# Altium footprint library Library.PcbLib: 21 footprints (part 1 of 2)
Each footprint in its own frame and in the unit in brackets; x right, y up, seen from the top. Pads: shape width x height; smd on the part's side, far side on the other; paste and mask are expansions set on the pad; w line width, h text height; cw(c..) or ccw(c..) is an arc to the next point about the centre after c.
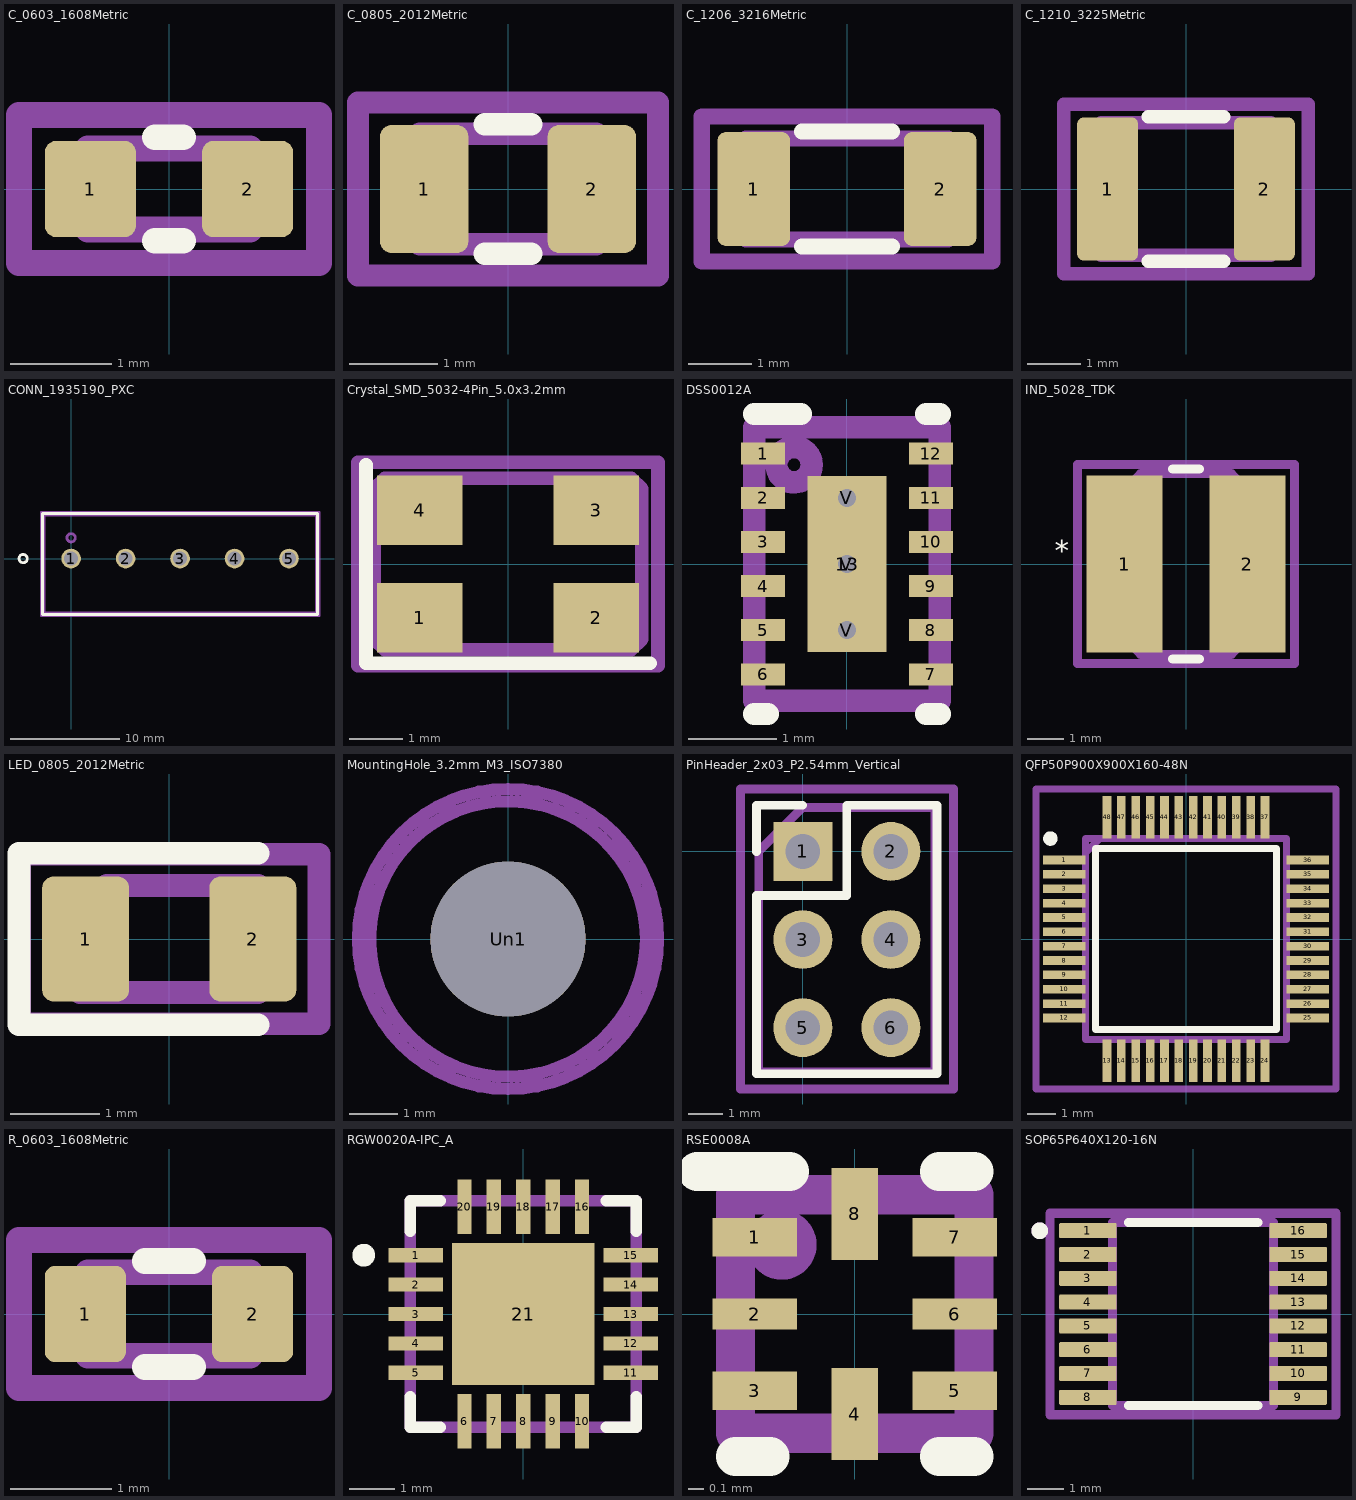
[diagram p0: the footprints below, top view; thin cyan lines are the x and y axes]

## C_0603_1608Metric [mm]
pads (2):
  rrect25% 0.9x0.95 smd: 1(-0.775,0) 2(0.775,0)
F.SilkS:
  lines w0.254: -0.141,-0.51 0.141,-0.51 ; -0.141,0.51 0.141,0.51
F.CrtYd:
  lines w0.254: -1.48,-0.73 -1.48,0.73 1.48,0.73 1.48,-0.73 -1.48,-0.73
F.Fab:
  lines w0.254: -0.8,-0.4 -0.8,0.4 0.8,0.4 0.8,-0.4 -0.8,-0.4
  text "'.Designator'" at -0.576,-0.16 h0.4

## C_0805_2012Metric [mm]
pads (2):
  rrect25% 1x1.45 smd: 1(-0.95,0) 2(0.95,0)
F.SilkS:
  lines w0.254: -0.261,-0.735 0.261,-0.735 ; -0.261,0.735 0.261,0.735
F.CrtYd:
  lines w0.254: -1.7,-0.98 -1.7,0.98 1.7,0.98 1.7,-0.98 -1.7,-0.98
F.Fab:
  lines w0.254: -1,-0.625 -1,0.625 1,0.625 1,-0.625 -1,-0.625
  text "'.Designator'" at -0.72,-0.2 h0.5

## C_1206_3216Metric [mm]
pads (2):
  rrect22% 1.15x1.8 smd: 1(-1.475,0) 2(1.475,0)
F.SilkS:
  lines w0.254: -0.711,-0.91 0.711,-0.91 ; -0.711,0.91 0.711,0.91
F.CrtYd:
  lines w0.254: -2.3,-1.15 -2.3,1.15 2.3,1.15 2.3,-1.15 -2.3,-1.15
F.Fab:
  lines w0.254: -1.6,-0.8 -1.6,0.8 1.6,0.8 1.6,-0.8 -1.6,-0.8
  text "'.Designator'" at -1.146,-0.317 h0.8

## C_1210_3225Metric [mm]
pads (2):
  rrect22% 1.15x2.7 smd: 1(-1.475,0) 2(1.475,0)
F.SilkS:
  lines w0.254: -0.711,-1.36 0.711,-1.36 ; -0.711,1.36 0.711,1.36
F.CrtYd:
  lines w0.254: -2.3,-1.6 -2.3,1.6 2.3,1.6 2.3,-1.6 -2.3,-1.6
F.Fab:
  lines w0.254: -1.6,-1.25 -1.6,1.25 1.6,1.25 1.6,-1.25 -1.6,-1.25
  text "'.Designator'" at -1.146,-0.317 h0.8

## CONN_1935190_PXC [mil]
pads (5):
  round 71 hole 51: 1(0,0) 2(196.85,0) 3(393.7,0) 4(590.55,0) 5(787.4,0)
F.SilkS:
  circle w10: c-173.43,0 r15
  lines w10: -103.43,-201.85 -103.43,162.48 890.83,162.48 890.83,-201.85 -103.43,-201.85
B.SilkS:
  circle w10: c-173.43,0 r15
F.CrtYd:
  lines w10: -108.43,-206.85 -108.43,167.48 895.83,167.48 895.83,-206.85 -108.43,-206.85
F.Fab:
  circle w10: c0,75 r15
  lines w10: -98.43,-196.85 -98.43,157.48 885.83,157.48 885.83,-196.85 -98.43,-196.85
  text "'.Designator'" at 337.07,-15.69 h39.37

## Crystal_SMD_5032-4Pin_5.0x3.2mm [mm]
pads (4):
  rect 1.6x1.3 smd: 1(-1.65,-1) 2(1.65,-1) 3(1.65,1) 4(-1.65,1)
F.SilkS:
  lines w0.254: -2.65,1.85 -2.65,-1.85 2.65,-1.85
F.CrtYd:
  lines w0.254: -2.8,-1.9 -2.8,1.9 2.8,1.9 2.8,-1.9 -2.8,-1.9
F.Fab:
  lines w0.254: -2.5,-0.6 -1.5,-1.6 ; -2.5,-1.4 -2.5,1.4 -2.3,1.6 2.3,1.6 2.5,1.4 2.5,-1.4 2.3,-1.6 -2.3,-1.6 -2.5,-1.4
  text "'.Designator'" at -1.438,-0.398 h1

## DSS0012A [mm]
pads (16):
  rect 0.5x0.25 smd: 1(-0.95,1.25) 2(-0.95,0.75) 3(-0.95,0.25) 4(-0.95,-0.25) 5(-0.95,-0.75) 6(-0.95,-1.25) 7(0.95,-1.25) 8(0.95,-0.75) 9(0.95,-0.25) 10(0.95,0.25) 11(0.95,0.75) 12(0.95,1.25)
  rect 0.9x2 smd: 13(0,0)
  round 0.5 hole 0.203: V(0,-0.75) V(0,0) V(0,0.75)
F.SilkS:
  lines w0.254: -1.05,-1.7 -0.9,-1.7 ; -1.05,1.7 -0.525,1.7 ; 0.9,-1.7 1.05,-1.7 ; 0.9,1.7 1.05,1.7
F.Paste:
  region: 0.41,0.999 0.419,0.996 0.428,0.992 0.436,0.986 0.442,0.978 0.446,0.969 0.449,0.96 0.45,0.95 0.45,0.149 0.449,0.14 0.446,0.131 0.442,0.122 0.436,0.114 0.428,0.108 0.419,0.104 0.41,0.101 0.4,0.1 -0.4,0.1 -0.41,0.101 -0.419,0.104 -0.428,0.108 -0.436,0.114 -0.442,0.122 -0.446,0.131 -0.449,0.14 -0.45,0.149 -0.45,0.95 -0.449,0.96 -0.446,0.969 -0.442,0.978 -0.436,0.986 -0.428,0.992 -0.419,0.996 -0.41,0.999 -0.4,1 0.4,1
  region: 0.41,-0.101 0.419,-0.104 0.428,-0.108 0.436,-0.114 0.442,-0.122 0.446,-0.131 0.449,-0.14 0.45,-0.149 0.45,-0.95 0.449,-0.96 0.446,-0.969 0.442,-0.978 0.436,-0.986 0.428,-0.992 0.419,-0.996 0.41,-0.999 0.4,-1 -0.4,-1 -0.41,-0.999 -0.419,-0.996 -0.428,-0.992 -0.436,-0.986 -0.442,-0.978 -0.446,-0.969 -0.449,-0.96 -0.45,-0.95 -0.45,-0.149 -0.449,-0.14 -0.446,-0.131 -0.442,-0.122 -0.436,-0.114 -0.428,-0.108 -0.419,-0.104 -0.41,-0.101 -0.4,-0.1 0.4,-0.1
F.Fab:
  circle w0.254: c-0.6,1.125 r0.2
  lines w0.254: -1.05,-1.55 -1.05,1.55 1.05,1.55 1.05,-1.55 -1.05,-1.55
  text "'.Designator'" at -1.438,-0.398 h1

## IND_5028_TDK [mm]
pads (2):
  rect 2.1x4.9 smd: 1(-1.7,0) 2(1.7,0)
F.SilkS:
  lines w0.254: -0.368,-2.627 0.368,-2.627 ; -0.368,2.627 0.368,2.627
  text "*" at -3.638,-0.117 h1
  text "*" at -3.638,-0.117 h1
F.CrtYd:
  lines w0.254: -3.004,-2.754 -3.004,2.754 3.004,2.754 3.004,-2.754 -3.004,-2.754
F.Fab:
  lines w0.254: -2.5,-1.25 -2.5,1.25 -1.25,2.5 1.25,2.5 2.5,1.25 2.5,-1.25 1.25,-2.5 -1.25,-2.5 -2.5,-1.25
  text "*" at -2.114,-0.117 h1
  text "*" at -2.114,-0.117 h1
  text "'.Designator'" at -1.438,-0.398 h1

## LED_0805_2012Metric [mm]
pads (2):
  rrect25% 0.975x1.4 smd: 1(-0.937,0) 2(0.937,0)
F.SilkS:
  lines w0.254: 1,-0.96 -1.685,-0.96 -1.685,0.96 1,0.96
F.CrtYd:
  lines w0.254: -1.68,-0.95 -1.68,0.95 1.68,0.95 1.68,-0.95 -1.68,-0.95
F.Fab:
  lines w0.254: -1,-0.6 -1,0.3 -0.7,0.6 1,0.6 1,-0.6 -1,-0.6
  text "'.Designator'" at -0.72,-0.2 h0.5

## MountingHole_3.2mm_M3_ISO7380 [mm]
pads (1):
  round 3.2 hole 3.2: Un1(0,0)
F.CrtYd:
  circle w0.254: c0,0 r3.1
F.Fab:
  text "'.Designator'" at -0.613,1.552 h1
Cmts.User:
  circle w0.254: c0,0 r2.85

## PinHeader_2x03_P2.54mm_Vertical [mm]
pads (6):
  rect 1.7x1.7 hole 1: 1(0,0)
  rrect100% 1.7x1.7 hole 1: 2(2.54,0) 3(0,-2.54) 4(2.54,-2.54) 5(0,-5.08) 6(2.54,-5.08)
F.SilkS:
  lines w0.254: -1.33,0 -1.33,1.33 0,1.33 ; -1.33,-6.41 -1.33,-1.27 1.27,-1.27 1.27,1.33 3.87,1.33 3.87,-6.41 -1.33,-6.41
F.CrtYd:
  lines w0.254: -1.8,-6.85 -1.8,1.8 4.35,1.8 4.35,-6.85 -1.8,-6.85
F.Fab:
  lines w0.254: -1.27,-6.35 -1.27,0 0,1.27 3.81,1.27 3.81,-6.35 -1.27,-6.35
  text "'.Designator'" at 1.668,-3.978 h1

## QFP50P900X900X160-48N [mm]
pads (48):
  rect 1.475x0.3 smd: 1(-4.238,2.75) 2(-4.238,2.25) 3(-4.238,1.75) 4(-4.238,1.25) 5(-4.238,0.75) 6(-4.238,0.25) 7(-4.238,-0.25) 8(-4.238,-0.75) 9(-4.238,-1.25) 10(-4.238,-1.75) 11(-4.238,-2.25) 12(-4.238,-2.75) 25(4.238,-2.75) 26(4.238,-2.25) 27(4.238,-1.75) 28(4.238,-1.25) 29(4.238,-0.75) 30(4.238,-0.25) 31(4.238,0.25) 32(4.238,0.75) 33(4.238,1.25) 34(4.238,1.75) 35(4.238,2.25) 36(4.238,2.75)
  rect 0.3x1.475 smd: 13(-2.75,-4.238) 14(-2.25,-4.238) 15(-1.75,-4.238) 16(-1.25,-4.238) 17(-0.75,-4.238) 18(-0.25,-4.238) 19(0.25,-4.238) 20(0.75,-4.238) 21(1.25,-4.238) 22(1.75,-4.238) 23(2.25,-4.238) 24(2.75,-4.238) 37(2.75,4.238) 38(2.25,4.238) 39(1.75,4.238) 40(1.25,4.238) 41(0.75,4.238) 42(0.25,4.238) 43(-0.25,4.238) 44(-0.75,4.238) 45(-1.25,4.238) 46(-1.75,4.238) 47(-2.25,4.238) 48(-2.75,4.238)
F.SilkS:
  circle w0.254: c-4.725,3.5 r0.125
  lines w0.254: -3.15,-3.15 -3.15,3.15 3.15,3.15 3.15,-3.15 -3.15,-3.15
F.CrtYd:
  lines w0.254: -5.225,-5.225 -5.225,5.225 5.225,5.225 5.225,-5.225 -5.225,-5.225
F.Fab:
  lines w0.254: -3.5,3 -3,3.5 ; -3.5,-3.5 -3.5,3.5 3.5,3.5 3.5,-3.5 -3.5,-3.5
  text "'.Designator'" at -1.826,-0.506 h1.27

## R_0603_1608Metric [mm]
pads (2):
  rrect25% 0.8x0.95 smd: 1(-0.825,0) 2(0.825,0)
F.SilkS:
  lines w0.254: -0.237,-0.523 0.237,-0.523 ; -0.237,0.523 0.237,0.523
F.CrtYd:
  lines w0.254: -1.48,-0.73 -1.48,0.73 1.48,0.73 1.48,-0.73 -1.48,-0.73
F.Fab:
  lines w0.254: -0.8,-0.413 -0.8,0.413 0.8,0.413 0.8,-0.413 -0.8,-0.413
  text "'.Designator'" at -0.576,-0.16 h0.4

## RGW0020A-IPC_A [mm]
pads (21):
  rect 1.207x0.316 smd: 1(-2.376,1.3) 2(-2.376,0.65) 3(-2.376,0) 4(-2.376,-0.65) 5(-2.376,-1.3) 11(2.376,-1.3) 12(2.376,-0.65) 13(2.376,0) 14(2.376,0.65) 15(2.376,1.3)
  rect 0.316x1.207 smd: 6(-1.3,-2.376) 7(-0.65,-2.376) 8(0,-2.376) 9(0.65,-2.376) 10(1.3,-2.376) 16(1.3,2.376) 17(0.65,2.376) 18(0,2.376) 19(-0.65,2.376) 20(-1.3,2.376)
  rect 3.15x3.15 smd: 21(0,0)
F.SilkS:
  circle w0.254: c-3.529,1.3 r0.125
  lines w0.254: -2.5,-1.833 -2.5,-2.5 -1.833,-2.5 ; -2.5,1.833 -2.5,2.5 -1.833,2.5 ; 1.833,-2.5 2.5,-2.5 2.5,-1.833 ; 1.833,2.5 2.5,2.5 2.5,1.833
F.Paste:
  region: 0.996,-0.996 -0.996,-0.996 -0.996,0.996 0.996,0.996
F.Fab:
  lines w0.254: -2.5,-2.5 -2.5,2.5 2.5,2.5 2.5,-2.5 -2.5,-2.5
  text "'.Designator'" at -1.438,-0.398 h1

## RSE0008A [mm]
pads (8):
  rect 0.55x0.25 smd: 1(-0.65,0.5) 3(-0.65,-0.5) 5(0.65,-0.5) 7(0.65,0.5)
  rect 0.55x0.2 smd: 2(-0.65,0) 6(0.65,0)
  rect 0.3x0.6 smd: 4(0,-0.65) 8(0,0.65)
F.SilkS:
  lines w0.254: -1.025,0.925 -0.425,0.925 ; -0.775,-0.925 -0.55,-0.925 ; 0.55,-0.925 0.775,-0.925 ; 0.55,0.925 0.775,0.925
F.Fab:
  circle w0.254: c-0.475,0.45 r0.1
  lines w0.254: -0.775,-0.775 -0.775,0.775 0.775,0.775 0.775,-0.775 -0.775,-0.775
  text "'.Designator'" at -1.438,-0.398 h1

## SOP65P640X120-16N [mm]
pads (16):
  rrect12% 1.57x0.41 smd: 1(-2.87,2.275) 2(-2.87,1.625) 3(-2.87,0.975) 4(-2.87,0.325) 5(-2.87,-0.325) 6(-2.87,-0.975) 7(-2.87,-1.625) 8(-2.87,-2.275) 9(2.87,-2.275) 10(2.87,-1.625) 11(2.87,-0.975) 12(2.87,-0.325) 13(2.87,0.325) 14(2.87,0.975) 15(2.87,1.625) 16(2.87,2.275)
F.SilkS:
  circle w0.254: c-4.19,2.275 r0.1
  lines w0.254: -1.765,-2.5 1.765,-2.5 ; -1.765,2.5 1.765,2.5
F.CrtYd:
  lines w0.254: -3.905,-2.75 -3.905,2.75 3.905,2.75 3.905,-2.75 -3.905,-2.75
F.Fab:
  circle w0.254: c-4.19,2.275 r0.1
  lines w0.254: -2.2,-2.5 -2.2,2.5 2.2,2.5 2.2,-2.5 -2.2,-2.5